# Altium footprint library PCB1.PcbLib: 76 footprints (part 3 of 5)
Each footprint in its own frame and in the unit in brackets; x right, y up, seen from the top. Pads: shape width x height; smd on the part's side, far side on the other; paste and mask are expansions set on the pad; w line width, h text height; cw(c..) or ccw(c..) is an arc to the next point about the centre after c.
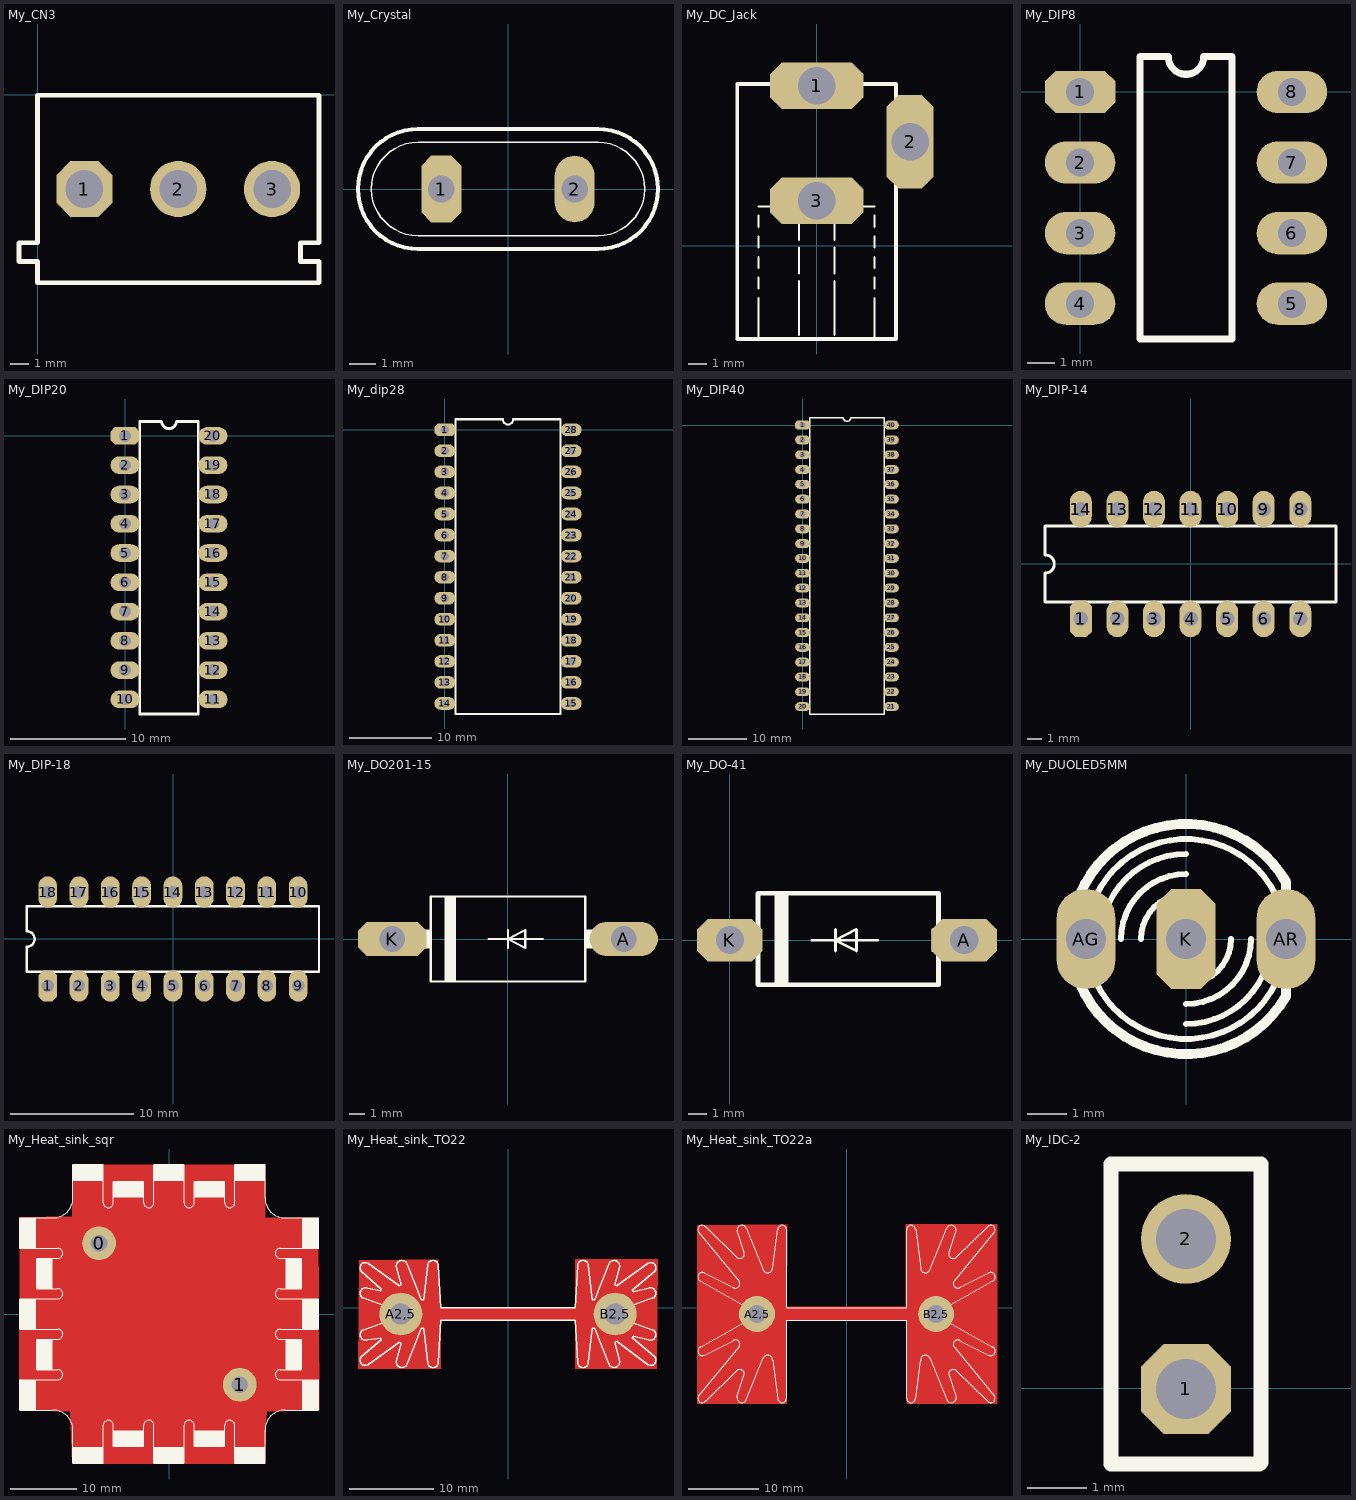
[diagram p2: the footprints below, top view; thin cyan lines are the x and y axes]

## My_CN3 [mil]
pads (3):
  oct 120x120 hole 80: 1(99.5,-200.5)
  round 120 hole 80: 2(299.5,-200.5) 3(499.5,-200.5)
Top Overlay:
  lines w10: -40,-315.63 -40,-355 -0.63,-355 ; -40,-315 -0.63,-315 -0.63,-0.63 ; -0.5,-355.13 -0.5,-400.5 599.5,-400.5 599.5,-355.13 ; -0.5,-0.5 599.5,-0.5 ; 560,-315.63 560,-355 599.37,-355 ; 560,-315 599.37,-315 599.37,-0.63

## My_Crystal [mil]
pads (2):
  oct 60x100 hole 40: 1(-100,0)
  oval 60x100 hole 40: 2(100,0)
Top Overlay:
  lines w2: -135,-70 cw(c-135,0) -135,70 135,70 cw(c135,0) 135,-70 -135,-70
  lines w6: -135,-90 cw(c-135,0) -135,90 135,90 cw(c135,0) 135,-90 -135,-90

## My_DC_Jack [mm]
pads (3):
  oct 5x2.5 hole 2: 1(0,8.57) 3(0,2.42)
  oct 2.5x5 hole 2: 2(5,5.57)
Top Overlay:
  lines w0.102: -3.1,-4.878 -3.1,-2.78 ; -3.1,-2.28 -3.1,-1.68 ; -3.1,-1.18 -3.1,-0.58 ; -3.1,-0.08 -3.1,0.52 ; -3.1,1.02 -3.1,1.62 ; -3.1,2.12 -2.5,2.12 ; -2,2.12 -1.4,2.12 ; -0.95,-4.778 -0.95,-1.88 ; -0.95,-1.48 -0.95,-0.08 ; -0.95,0.32 -0.95,1.72 ; -0.9,2.12 -0.3,2.12 ; 0.4,2.12 1,2.12 ; 0.95,-4.778 0.95,-1.88 ; 0.95,-1.48 0.95,-0.08 ; 0.95,0.32 0.95,1.72 ; 1.4,2.12 2,2.12 ; 2.5,2.12 3.1,2.12 ; 3.1,-4.878 3.1,-2.78 ; 3.1,-2.28 3.1,-1.68 ; 3.1,-1.18 3.1,-0.58 ; 3.1,-0.08 3.1,0.52 ; 3.1,1.02 3.1,1.62
  lines w0.203: -4.25,-4.978 4.25,-4.978 4.25,8.67 -4.25,8.67 -4.25,-4.978
Mechanical 1:
  lines w0.254: -1.6,8.07 -1.6,9.07 1.6,9.07 1.6,8.07 ; -1.6,1.92 1.6,1.92 1.6,2.92 -1.6,2.92 -1.6,1.92 ; 4.5,3.97 5.5,3.97 5.5,7.17 4.5,7.17 4.5,3.97

## My_DIP8 [mil]
pads (8):
  oct 100x60 hole 40: 1(0,0)
  oval 100x60 hole 40: 2(0,-100) 3(0,-200) 4(0,-300) 5(300,-300) 6(300,-200) 7(300,-100) 8(300,0)
Top Overlay:
  lines w10: 85,-350 215,-350 215,50 175,50 cw(c150,50) 125,50 85,50 85,-350

## My_DIP20 [mil]
pads (20):
  oct 100x60 hole 40: 1(-0.5,-0.5)
  oval 100x60 hole 40: 2(-0.5,-100.5) 3(-0.5,-200.5) 4(-0.5,-300.5) 5(-0.5,-400.5) 6(-0.5,-500.5) 7(-0.5,-600.5) 8(-0.5,-700.5) 9(-0.5,-800.5) 10(-0.5,-900.5) 11(299.5,-900.5) 12(299.5,-800.5) 13(299.5,-700.5) 14(299.5,-600.5) 15(299.5,-500.5) 16(299.5,-400.5) 17(299.5,-300.5) 18(299.5,-200.5) 19(299.5,-100.5) 20(299.5,-0.5)
Top Overlay:
  lines w10: 49.5,-950.5 49.5,49.5 124.5,49.5 ccw(c149.5,49.5) 174.5,49.5 249.5,49.5 249.5,-950.5 49.5,-950.5

## My_dip28 [mil]
pads (28):
  oct 100x60 hole 40: 1(-0.5,-0.5)
  oval 100x60 hole 40: 2(-0.5,-100.5) 3(-0.5,-200.5) 4(-0.5,-300.5) 5(-0.5,-400.5) 6(-0.5,-500.5) 7(-0.5,-600.5) 8(-0.5,-700.5) 9(-0.5,-800.5) 10(-0.5,-900.5) 11(-0.5,-1000.5) 12(-0.5,-1100.5) 13(-0.5,-1200.5) 14(-0.5,-1300.5) 15(599.5,-1300.5) 16(599.5,-1200.5) 17(599.5,-1100.5) 18(599.5,-1000.5) 19(599.5,-900.5) 20(599.5,-800.5) 21(599.5,-700.5) 22(599.5,-600.5) 23(599.5,-500.5) 24(599.5,-400.5) 25(599.5,-300.5) 26(599.5,-200.5) 27(599.5,-100.5) 28(599.5,-0.5)
Top Overlay:
  lines w10: 49.5,-1350.5 49.5,49.5 274.5,49.5 ccw(c299.5,49.5) 324.5,49.5 549.5,49.5 549.5,-1350.5 49.5,-1350.5

## My_DIP40 [mil]
pads (40):
  oct 100x60 hole 40: 1(-0.5,-0.5)
  oval 100x60 hole 40: 2(-0.5,-100.5) 3(-0.5,-200.5) 4(-0.5,-300.5) 5(-0.5,-400.5) 6(-0.5,-500.5) 7(-0.5,-600.5) 8(-0.5,-700.5) 9(-0.5,-800.5) 10(-0.5,-900.5) 11(-0.5,-1000.5) 12(-0.5,-1100.5) 13(-0.5,-1200.5) 14(-0.5,-1300.5) 15(-0.5,-1400.5) 16(-0.5,-1500.5) 17(-0.5,-1600.5) 18(-0.5,-1700.5) 19(-0.5,-1800.5) 20(-0.5,-1900.5) 21(599.5,-1900.5) 22(599.5,-1800.5) 23(599.5,-1700.5) 24(599.5,-1600.5) 25(599.5,-1500.5) 26(599.5,-1400.5) 27(599.5,-1300.5) 28(599.5,-1200.5) 29(599.5,-1100.5) 30(599.5,-1000.5) 31(599.5,-900.5) 32(599.5,-800.5) 33(599.5,-700.5) 34(599.5,-600.5) 35(599.5,-500.5) 36(599.5,-400.5) 37(599.5,-300.5) 38(599.5,-200.5) 39(599.5,-100.5) 40(599.5,-0.5)
Top Overlay:
  lines w10: 49.5,-1950.5 49.5,49.5 274.5,49.5 ccw(c299.5,49.5) 324.5,49.5 549.5,49.5 549.5,-1950.5 49.5,-1950.5

## My_DIP-14 [mil]
pads (14):
  oct 60x100 hole 40: 1(-300.5,-150.5)
  oval 60x100 hole 40: 2(-200.5,-150.5) 3(-100.5,-150.5) 4(-0.5,-150.5) 5(99.5,-150.5) 6(199.5,-150.5) 7(299.5,-150.5) 8(299.5,149.5) 9(199.5,149.5) 10(99.5,149.5) 11(-0.5,149.5) 12(-100.5,149.5) 13(-200.5,149.5) 14(-300.5,149.5)
Top Overlay:
  lines w7.87: -398.14,-104.83 -398.14,-25.5 ccw(c-398.14,-0.5) -398.14,24.5 -398.14,103.83 397.14,103.83 397.14,-104.83 -398.14,-104.83

## My_DIP-18 [mil]
pads (18):
  oct 60x100 hole 40: 1(-400.5,-150.5)
  oval 60x100 hole 40: 2(-300.5,-150.5) 3(-200.5,-150.5) 4(-100.5,-150.5) 5(-0.5,-150.5) 6(99.5,-150.5) 7(199.5,-150.5) 8(299.5,-150.5) 9(399.5,-150.5) 10(399.5,149.5) 11(299.5,149.5) 12(199.5,149.5) 13(99.5,149.5) 14(-0.5,149.5) 15(-100.5,149.5) 16(-200.5,149.5) 17(-300.5,149.5) 18(-400.5,149.5)
Top Overlay:
  lines w7.87: -467.04,-104.83 -467.04,-25.5 ccw(c-467.04,-0.5) -467.04,24.5 -467.04,103.83 466.04,103.83 466.04,-104.83 -467.04,-104.83

## My_DO201-15 [mm]
pads (2):
  oval 4.496x2.248 hole 1.7: A(7.625,0.004)
  oct 4.496x2.248 hole 1.7: K(-7.615,0.004)
Top Overlay:
  rectangle: -4.186,-2.79 -3.424,2.798
  rectangle: -5.964,-0.631 -5.075,0.639
  rectangle: 5.085,-0.631 5.974,0.639
  lines w0.152: -1.265,0.004 0.005,0.004 ; 0.005,-0.58 0.005,0.004 ; 0.005,0.588 0.005,0.004 ; 2.291,0.004 0.005,0.004 ; 0.005,0.004 1.148,0.588 1.148,-0.58 0.005,0.004 ; -5.075,-2.79 -5.075,2.798 5.085,2.798 5.085,-2.79 -5.075,-2.79
  lines w1.27: -7.615,0.004 -6.218,0.004 ; 6.228,0.004 7.625,0.004

## My_DO-41 [mil]
pads (2):
  oct 140x90 hole 60: A(500,0) K(0,0)
Top Overlay:
  rectangle: 95.2,-95 125.2,100
  rectangle: 25,-25 60,25
  rectangle: 430.2,-24.85 465.2,25.15
  lines w6: 175.2,0 225.2,0 ; 225.2,-23 225.2,0 ; 225.2,23 225.2,0 ; 315.2,0 225.2,0 ; 225.2,0 270.2,23 270.2,-23 225.2,0
  lines w10: 60,-95 445,-95 445,100 60,100 60,-95

## My_DUOLED5MM [mil]
pads (3):
  oval 59x100 hole 40: AG(-100,0) AR(100,0)
  oct 59x100 hole 40: K(0,0)
Top Overlay:
  lines w6: -85,0 cw(c0,0) 0,85 ; -65,0 cw(c0,0) 0,65 ; -45,0 cw(c0,0) 0,45 ; 0,-85 ccw(c0,0) 85,0 ; 0,-65 ccw(c0,0) 65,0 ; 0,-45 ccw(c0,0) 45,0 ; -94,-34 ccw(c0,0) 94,-34 ccw(c0,0) 94,34 ccw(c0,0) -94,34 ccw(c0,0) -94,-34
  lines w10: -110,34 ccw(c0,0) -110,-34 ccw(c0,0) 100.03,-57.01 ; -109.97,33.99 cw(c0,0) 100,57 100,35 ; 100,-57 100,-35 100,37

## My_Heat_sink_sqr [mil]
pads (2):
  round 200 hole 100: 0(-415,420) 1(420,-420)
Top Layer:
  region: 885,570 570,575 570,885 -570,885 -575,580 -885,575 -890,-570 -585,-580 -575,-890 570,-890 575,-655 580,-580 890,-570
Top Overlay:
  circle w6: c-420,420 r85
  circle w6: c420,-420 r85
  rectangle: -330,690 -150,790
  rectangle: -570,790 -390,890
  rectangle: -790,150 -690,330
  rectangle: -890,390 -790,570
  rectangle: 150,-790 330,-690
  rectangle: 390,-890 570,-790
  rectangle: 690,-330 790,-150
  rectangle: 790,-570 890,-390
  rectangle: -790,-330 -690,-150
  rectangle: -890,-570 -790,-390
  rectangle: -890,-90 -790,90
  rectangle: -330,-790 -150,-690
  rectangle: -90,-890 90,-790
  rectangle: -570,-890 -390,-790
  rectangle: 690,150 790,330
  rectangle: 790,390 890,570
  rectangle: 790,-90 890,90
  rectangle: 150,690 330,790
  rectangle: -90,790 90,890
  rectangle: 390,790 570,890
  lines w6: -885,-570 -690,-570 cw(c-690,-690) -570,-690 -570,-885 ; -885,-390 -660,-390 ccw(c-660,-360) -660,-330 -785,-330 ; -885,-90 -660,-90 cw(c-660,-120) -660,-150 -785,-150 ; -885,90 -660,90 ccw(c-660,120) -660,150 -785,150 ; -885,390 -660,390 cw(c-660,360) -660,330 -785,330 ; -885,570 -690,570 ccw(c-690,690) -570,690 -570,885 ; -390,-885 -390,-660 cw(c-360,-660) -330,-660 -330,-785 ; -390,885 -390,660 ccw(c-360,660) -330,660 -330,785 ; -150,-785 -150,-660 cw(c-120,-660) -90,-660 -90,-885 ; -150,785 -150,660 ccw(c-120,660) -90,660 -90,885 ; 90,-885 90,-660 cw(c120,-660) 150,-660 150,-785 ; 90,885 90,660 ccw(c120,660) 150,660 150,785 ; 330,-785 330,-660 cw(c360,-660) 390,-660 390,-885 ; 330,785 330,660 ccw(c360,660) 390,660 390,885 ; 570,-885 570,-690 cw(c690,-690) 690,-570 885,-570 ; 570,885 570,690 ccw(c690,690) 690,570 885,570 ; 785,-330 660,-330 ccw(c660,-360) 660,-390 885,-390 ; 785,-150 660,-150 cw(c660,-120) 660,-90 885,-90 ; 785,150 660,150 ccw(c660,120) 660,90 885,90 ; 785,330 660,330 cw(c660,360) 660,390 885,390

## My_Heat_sink_TO22 [mil]
pads (2):
  round 200 hole 100: A2,5(-500,-30) B2,5(500,-30)
Top Layer:
  region: 700,225 315,225 315,0 -315,0 -325,225 -695,220 -700,-285 -315,-285 -315,-60 315,-60 315,-285 695,-285
Top Overlay:
  lines w6: -677,-105 -595,-75 -535,-55 ccw(c-500,-30) -535,-5 -595,15 -677,45 ; -675.38,-104.16 ccw(c-665,-126.99) -655,-149.99 -596,-143 -591,-150 -685,-230 ccw(c-665,-245) -645,-260 ; -675.38,44.17 cw(c-665,67) -655,90 -596,78 -591,85 -685,170 cw(c-665,185) -645,200 ; -649,-264 -507,-162 -499,-166 -522,-250 ; -649,204 -507,102 -499,106 -522,190 ; -521.56,-248.57 ccw(c-495,-253) -470,-263 -404,-97 -393,-97 -375,-257 ; -521.56,188.57 cw(c-495,193) -470,203 -404,37 -393,37 -375,197 ; -375,-255 ccw(c-350,-255) -325,-255 -315,-60 315,-60 325,-255 ccw(c350,-255) 375,-255 ; -375,195 cw(c-350,195) -325,195 -315,0 315,0 325,195 cw(c350,195) 375,195 ; 375,-256 393,-97 404,-97 470,-263 ccw(c494.99,-253) 521.55,-248.57 ; 375,198 393,37 404,37 470,203 cw(c494.99,193) 521.55,188.57 ; 522,-250 499,-161 507,-157 649,-264 ; 522,190 499,106 507,102 649,204 ; 535,-55 595,-75 677,-105 ; 535.78,-53.85 cw(c500,-29.99) 535,-4.99 595,15 676,45 ; 645,-260 ccw(c665,-245) 685,-230 581,-140 586,-133 655,-150 ccw(c665,-126.99) 675.38,-104.16 ; 645,200 cw(c665,185) 685,170 581,80 586,73 655,90 cw(c665,67) 675.38,44.17
Mechanical 2:
  text "2,5" at -575,-150 h50
  text "2,5" at 450,-150 h50

## My_Heat_sink_TO22a [mil]
pads (2):
  round 200 hole 100: A2,5(-500,-35) B2,5(500,-35)
Top Layer:
  region: 840,465 330,465 330,5 -335,5 -330,465 -835,460 -835,-535 -335,-535 -335,-75 335,-70 335,-535 840,-535
Top Overlay:
  lines w6: -825,-491 -600,-218 ; -825,-490 ccw(c-805,-505) -785,-520 ; -825,420 cw(c-805,435) -785,450 ; -825,421 -600,148 ; -816,-220 -585,-90 -540,-65 ccw(c-500,-35) -540,-5 -585,20 -816,150 ; -815.38,-219.16 ccw(c-805,-241.99) -795,-264.99 -633,-183 ; -815.38,149.17 cw(c-805,172) -795,195 -633,113 ; -787,-522 -612,-352 ; -787,452 -612,282 ; -635.22,-184.15 cw(c-621.01,-205) -600.01,-219 ; -635.22,114.15 ccw(c-621,135) -600,149 ; -615,-355 cw(c-595,-370) -575,-385 ; -615,285 ccw(c-595,300) -575,315 ; -612,-500 -573,-381 ; -612,430 -573,311 ; -611.56,-498.57 ccw(c-585,-503) -560,-513 -464,-280 ; -611.56,428.57 cw(c-585,433) -560,443 -464,210 ; -465,-282 cw(c-440,-292) -413.44,-296.43 ; -465,212 ccw(c-440,222) -413.44,226.43 ; -413,-294 -385,-507 ; -413,224 -385,437 ; -385,-505 ccw(c-360,-505) -335,-505 -335,-70 335,-70 335,-505 ccw(c360,-505) 385,-505 ; -385,435 cw(c-360,435) -335,435 -335,0 -300,0 335,0 335,435 cw(c360,435) 385,435 ; 385,-507 413,-294 ; 385,437 413,224 ; 413.44,-296.43 cw(c440,-292) 465,-282 ; 413.44,226.43 ccw(c440,222) 465,212 ; 464,-280 560,-513 ccw(c584.99,-503) 611.55,-498.57 ; 464,210 560,443 cw(c584.99,433) 611.55,428.57 ; 573,-381 612,-500 ; 573,311 612,430 ; 575,-385 cw(c595,-370) 615,-355 ; 575,315 ccw(c595,300) 615,285 ; 599.99,-219 cw(c620.99,-205) 635.21,-184.15 ; 600,-218 825,-491 ; 600,148 825,421 ; 599.99,149 ccw(c621,135) 635.22,114.14 ; 612,-352 787,-522 ; 612,282 787,452 ; 633,-183 795,-265 ccw(c805,-241.99) 815.38,-219.16 ; 633,113 795,195 cw(c805,172) 815.38,149.17 ; 785,-520 ccw(c805,-505) 825,-490 ; 785,450 cw(c805,435) 825,420 ; 816,-220 585,-90 540,-65 cw(c500,-35) 540,-5 585,20 816,150
Mechanical 2:
  text "2,5" at -550,-150 h50
  text "2,5" at 450,-150 h50

## My_IDC-2 [mil]
pads (2):
  oct 60x60 hole 40: 1(259.5,-0.5)
  round 60 hole 40: 2(259.5,99.5)
Top Overlay:
  lines w10: 209.5,-50.5 209.5,149.5 309.5,149.5 309.5,49.5 309.5,-49.5 308.5,-50.5 209.5,-50.5